# EAGLE library part 6620XX21122_66201021122 (library WR-MPC3)
WR-MPC3 3.00 mm Male Dual Row Vertical Header KIND PROPERTIES: Pitch:3 mm Gender:Male MATERIAL PROPERTIES: Insulator Material:LCP Insulator Flammability Rating:UL94 V-0 Insulator Color:Black Contact Material:Copper Alloy Contact Plating:Tin Contact Type:Stamped GENERAL INFORMATION Operating Temperature:-40 up to +105 °C Working Voltage:250V (AC) Withstanding Voltage:1500 V (AC) Contact Resistance:10 mΩ RISO:1000 MΩ CERTIFICATION UL Approval:E323964 PACKAGING PROPERTIES Packaging:Tube <https://katalog.we-online.com/media/images/v2/o33170v209%20Family_WR-MPC3_6620xx21122.jpg> Details see: https://katalog.we-online.com/en/em/MPC3_3_00_MALE_DUAL_ROW_VERTICAL_HEADER_6620XX21122 Updated by Yingchun,Shan 2019-11-13 2019 (C) Würth Elektronik
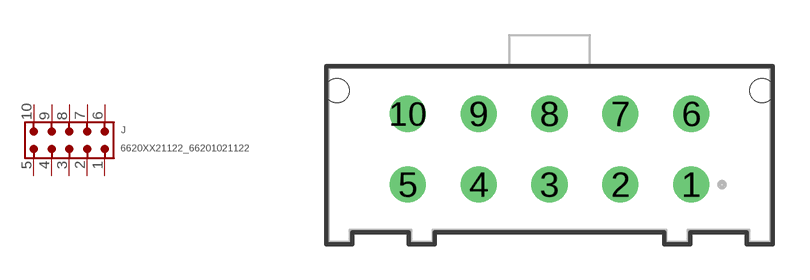
[diagram p33: symbol with the pads of 66201021122; footprint 66201021122]

Designator prefix J

## 6620XX21122_66201021122 (CONTACT-RESISTANCE: 10Ohm; DATASHEET-URL: https://www.we-online.com/redexpert/spec/66201021122?ae; GENDER: Male; IR: 5A; MOUNT: THT; PART-NUMBER: 66201021122; PINS: 10; PITCH: 3mm; ROWS: Dual; TOL-R: max.; TYPE: Vertical; VALUE: 66201021122; WORKING-VOLTAGE: 250V(AC))  [66201021122]
1  1  pas
2  2  pas
3  3  pas
4  4  pas
5  5  pas
6  6  pas
7  7  pas
8  8  pas
9  9  pas
10  10  pas

## Footprint 66201021122 (pad centres in mm)
WR-MPC3 3.00 mm Male Dual Row Vertical Header,10 pins
drill 1.02: 1 6,-1.5; 2 3,-1.5; 3 0,-1.5; 4 -3,-1.5; 5 -6,-1.5; 6 6,1.5; 7 3,1.5; 8 0,1.5; 9 -3,1.5; 10 -6,1.5
hole 1.02 at -9,2.49
hole 1.02 at 9,2.49